# Altium footprint library BB9009A.01.A.4.PcbLib: 1 footprints
Each footprint in its own frame and in the unit in brackets; x right, y up, seen from the top. Pads: shape width x height; smd on the part's side, far side on the other; paste and mask are expansions set on the pad; w line width, h text height; cw(c..) or ccw(c..) is an arc to the next point about the centre after c.
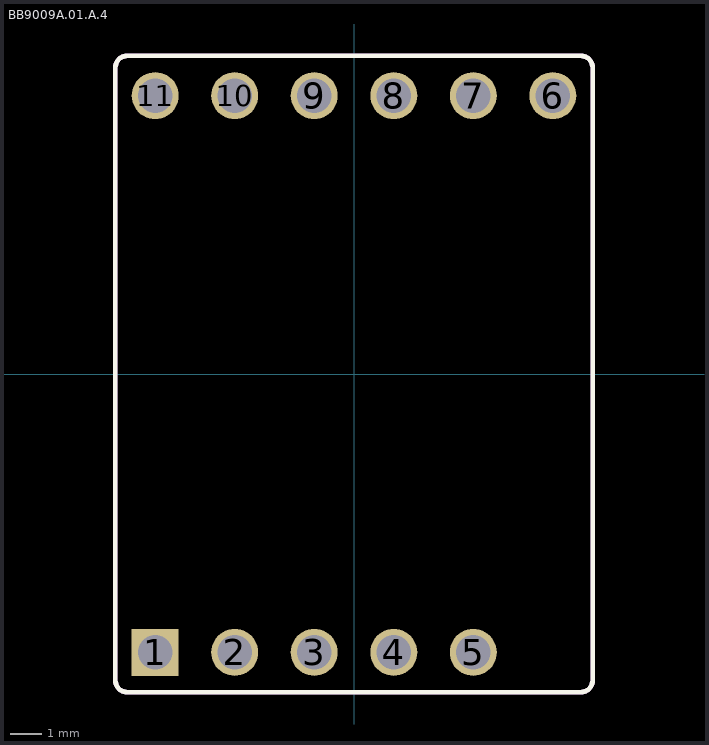
[diagram p0: the footprint, top view; thin cyan lines are the x and y axes]

## BB9009A.01.A.4 [mm]
pads (11):
  rect 1.5x1.5 hole 1.1: 1(-6.35,-8.89)
  round 1.5 hole 1.1: 2(-3.81,-8.89) 3(-1.27,-8.89) 4(1.27,-8.89) 5(3.81,-8.89) 6(6.35,8.89) 7(3.81,8.89) 8(1.27,8.89) 9(-1.27,8.89) 10(-3.81,8.89) 11(-6.35,8.89)
Top Overlay:
  lines w0.152: -7.62,-9.779 ccw(c-7.239,-9.779) -7.239,-10.16 7.239,-10.16 ccw(c7.239,-9.779) 7.62,-9.779 7.62,9.779 ccw(c7.239,9.779) 7.239,10.16 -7.239,10.16 ccw(c-7.239,9.779) -7.62,9.779 -7.62,-9.779
Mechanical 13:
  lines w0.152: -7.62,-9.779 ccw(c-7.239,-9.779) -7.239,-10.16 7.239,-10.16 ccw(c7.239,-9.779) 7.62,-9.779 7.62,9.779 ccw(c7.239,9.779) 7.239,10.16 -7.239,10.16 ccw(c-7.239,9.779) -7.62,9.779 -7.62,-9.779
Mechanical 15:
  lines w0.152: -7.62,-9.779 ccw(c-7.239,-9.779) -7.239,-10.16 7.239,-10.16 ccw(c7.239,-9.779) 7.62,-9.779 7.62,9.779 ccw(c7.239,9.779) 7.239,10.16 -7.239,10.16 ccw(c-7.239,9.779) -7.62,9.779 -7.62,-9.779
3D body: height 8.5, standoff -3.04, extent -7.675,-10.188 7.586,10.152